# Altium integrated library Linear Technology PMIC-Switching Reg LTC1174-LTC3901.IntLib: 2647 symbols (part 4 of 310)
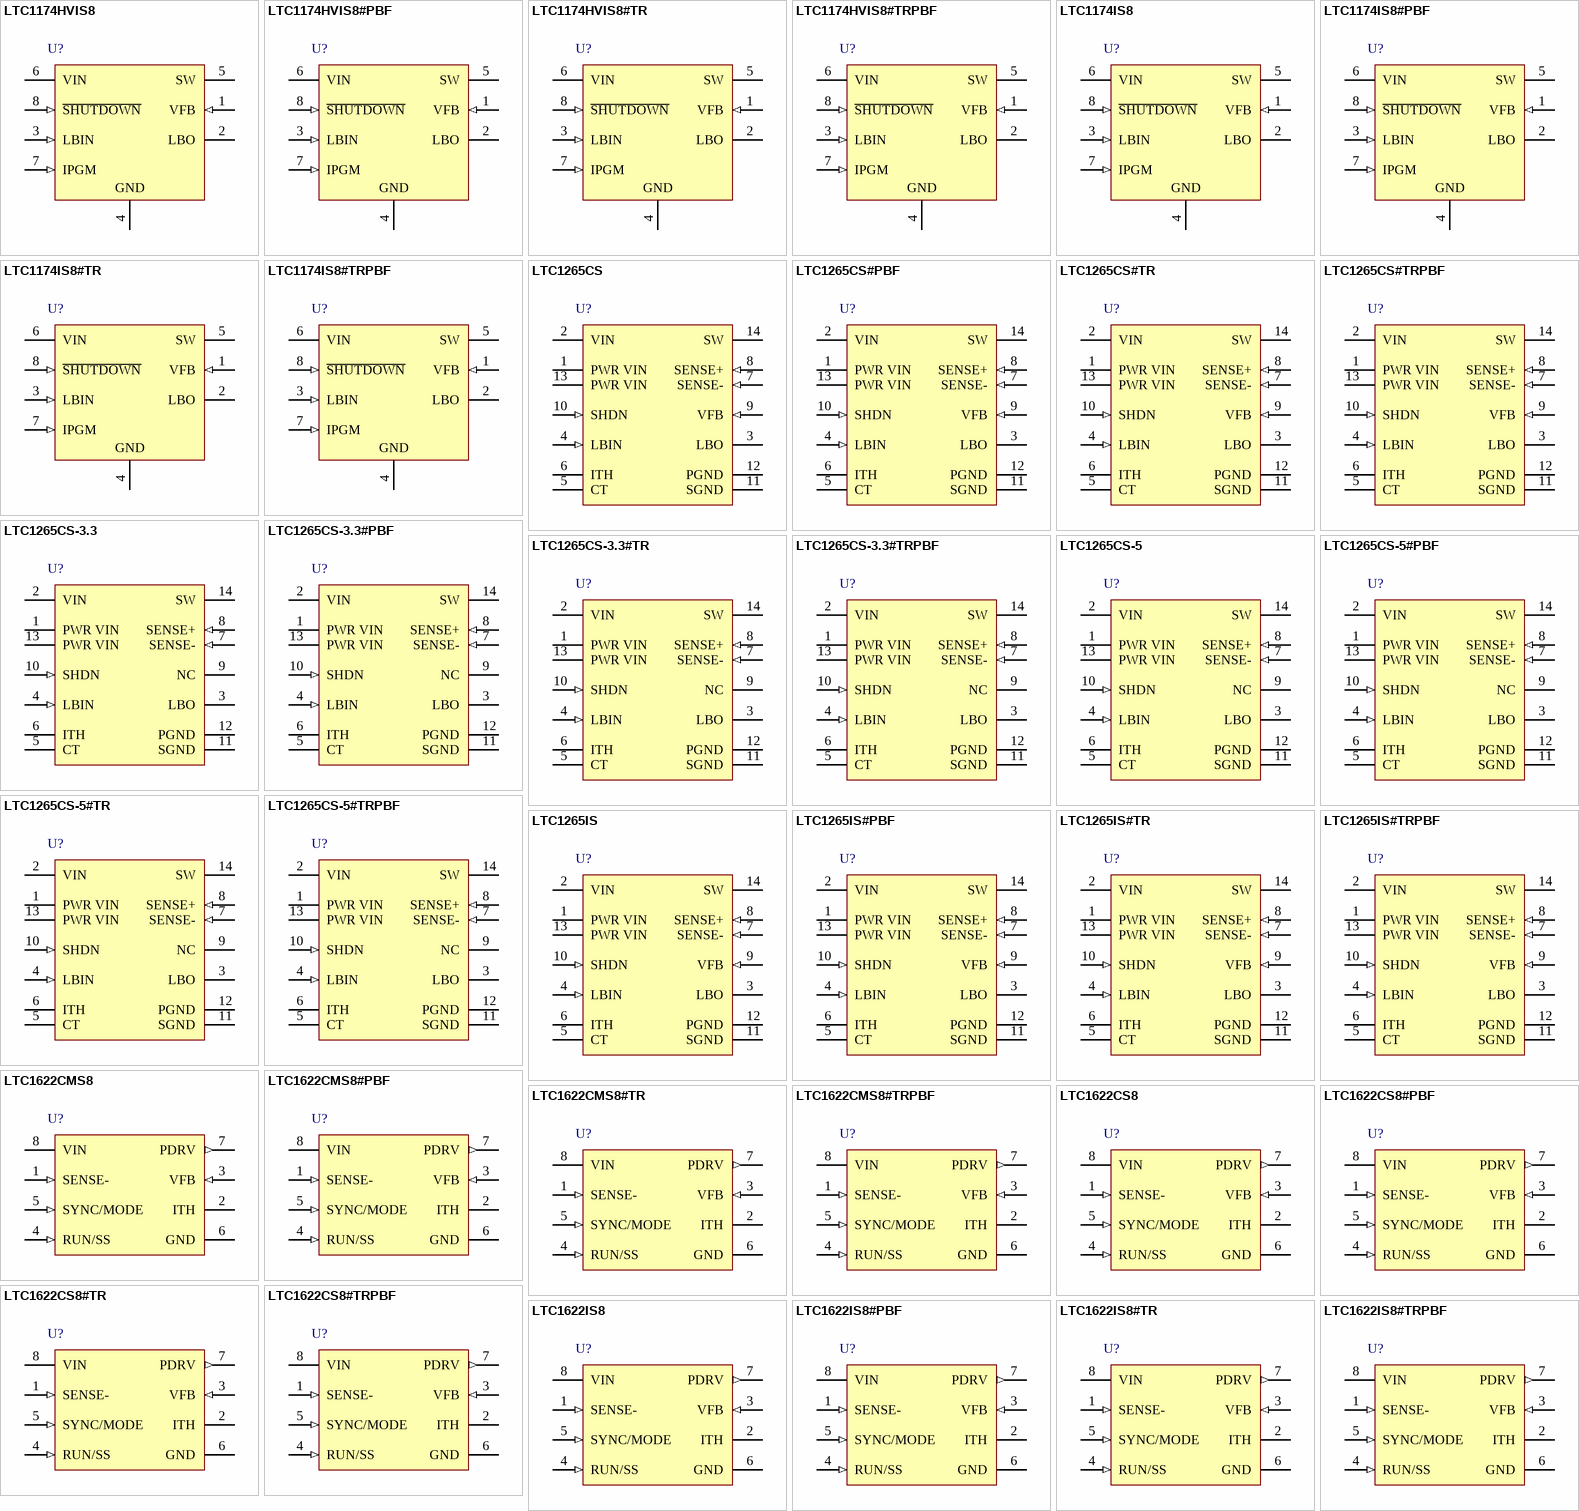
[diagram p217: symbols LTC1174HVIS8 to LTC1622IS8#TRPBF]

## LTC1265IS#TR
designator U?
1.2 A, High Efficiency Step-Down DC/DC Converter, 14-pin SOIC (S-14), -40 to 85 degC, Tape and Reel; Manufacturer: Linear Technology; PartNumber: LTC1265IS#TR; Number of Outputs: 1; PackageReference: S-14; PackageDescription: 14-Pin Plastic Small Outline, Body 8.65 x 3.9 mm, Pitch 1.27 mm; Supplier 1: Digi-Key; Supplier Part Number 1: LTC1265IS#TR-ND; RoHS: FALSE
footprint LT-S-14_N (SOIC, 14-Leads, Body 8.7x4mm, Pitch 1.27mm, IPC Medium Density)
footprint LT-S-14_L (SOIC, 14-Leads, Body 8.7x4mm, Pitch 1.27mm, IPC High Density)
footprint LT-S-14_M (SOIC, 14-Leads, Body 8.7x4mm, Pitch 1.27mm, IPC Low Density)
pins: 1 PWR VIN (power) "Supply for the Power MOSFET and its Driver. Must decouple this pin properly to ground. Must always tie Pins 1 and 13 together.", 2 VIN (power) "Main Supply for All the Control Circuitry in the LTC1265.", 3 LBO (hiz) "Open-Drain Output of the Low-Battery Comparator. This pin will sink current when Pin 4 (LBIN) goes below 1.25V. During shutdown, this pin is high impedance.", 4 LBIN (in) "The (-) Input of the Low-Battery Comparator. The (+) input is connected to a reference voltage of 1.25V.", 5 CT "External capacitor CT from Pin 5 to ground sets the switch off time. The operating frequency is dependent on the input voltage and CT.", 6 ITH "Feedback Amplifier Decoupling Point. The current comparator threshold is proportional to Pin 6 voltage.", 7 SENSE- (in) "Connect to the (-) input of the current comparator. For LTC1265-3.3 and LTC1265-5, it also connects to an internal resistive divider which sets the output voltage.", 8 SENSE+ (in) "The (+) Pin to the Current Comparator. A built-in offset between Pins 7 and 8 in conjunction with RSENSE sets the current trip threshold.", 9 VFB (in) "For the LTC1265 adjustable version, this pin serves as the feedback pin from an external resistive divider used to set the output voltage. On the LTC1265-3.3 and LTC1265-5 versions, this pin is not used.", 10 SHDN (in) "Pulling this pin HIGH keeps the internal switch off and puts the LTC1265 in micropower shutdown. Do not float this pin.", 11 SGND (power) "Small-Signal Ground. Must be routed separately from other grounds to the (-) terminal of COUT.", 12 PGND (power) "Switch Driver Ground. Connects to the (-) terminal of CIN. Anode of the Schottky diode must be connected close to this pin.", 13 PWR VIN (power) "Supply for the Power MOSFET and its Driver. Must decouple this pin properly to ground. Must always tie Pins 1 and 13 together.", 14 SW (power) "Drain of the P-Channel MOSFET Switch. Cathode of the Schottky diode must be connected close to this pin."